# Altium schematic symbol library TL1963A-33DCYR.SchLib: 1 symbol
Pins are listed as number, name and electrical type; pins without a type are passive.

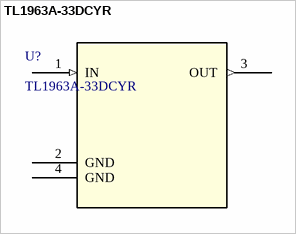
[diagram p0: symbol TL1963A-33DCYR]

## TL1963A-33DCYR
designator U?
1.5-A, 20-V, low-dropout voltage regulator with reverse current & reverse voltage protection 4-SOT-223 -40 to 125; Manufacturer_Name: Texas Instruments; Copyright: Copyright (C) 2026 Ultra Librarian. All rights reserved.; Manufacturer_Part_Number: TL1963A-33DCYR; RefDes: RefDes; Type: Type
footprint DCY4_TEX
pins: 1 IN (in), 2 GND (power), 3 OUT (out), 4 GND (power)